# Altium schematic symbol library SchottkyDiode.SchLib: 1 symbol
Pins are listed as number, name and electrical type; pins without a type are passive.

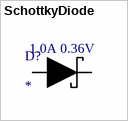
[diagram p0: symbol SchottkyDiode]

## SchottkyDiode
designator D?
footprint SDIODSMA1810X1M (Chip Diode, 2-Leads, Body 3.60x1.71mm, IPC Low Density)
pins: 1 (A) (power), 2 (C) (power)
text: 1.0A 0.36V